# Altium footprint library JMP1X5-F180_2.54.PcbLib: 1 footprints
Each footprint in its own frame and in the unit in brackets; x right, y up, seen from the top. Pads: shape width x height; smd on the part's side, far side on the other; paste and mask are expansions set on the pad; w line width, h text height; cw(c..) or ccw(c..) is an arc to the next point about the centre after c.
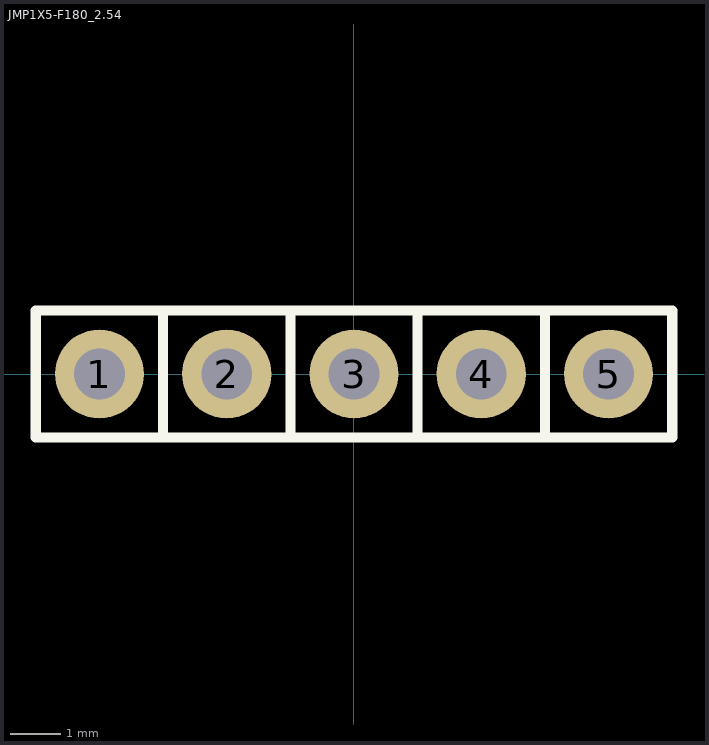
[diagram p0: the footprint, top view; thin cyan lines are the x and y axes]

## JMP1X5-F180_2.54 [mil]
height 169.29
pads (5):
  round 70 hole 40: 1(-200,0) 2(-100,0) 3(0,0) 4(100,0) 5(200,0)
TopOverlay:
  lines w8: -150,-50 -150,50 ; -50,-50 -50,50 ; 50,-50 50,50 ; 150,-50 150,50 ; -250,-50 250,-50 250,50 -250,50 -250,-50
3D body: height 169.29, standoff 0, extent -254,-54 254,54